# EAGLE library part FIREFLY (library Boards)
Addon Board for Firefly Sensor Nodes This version is compliant with Firefly Micro powered by Atmel Atmega128RFA1. Connectors on female gender match those on Firefly Micro Board. Connectors on male gender mate with Firefly Micro Board. Use these for addons.
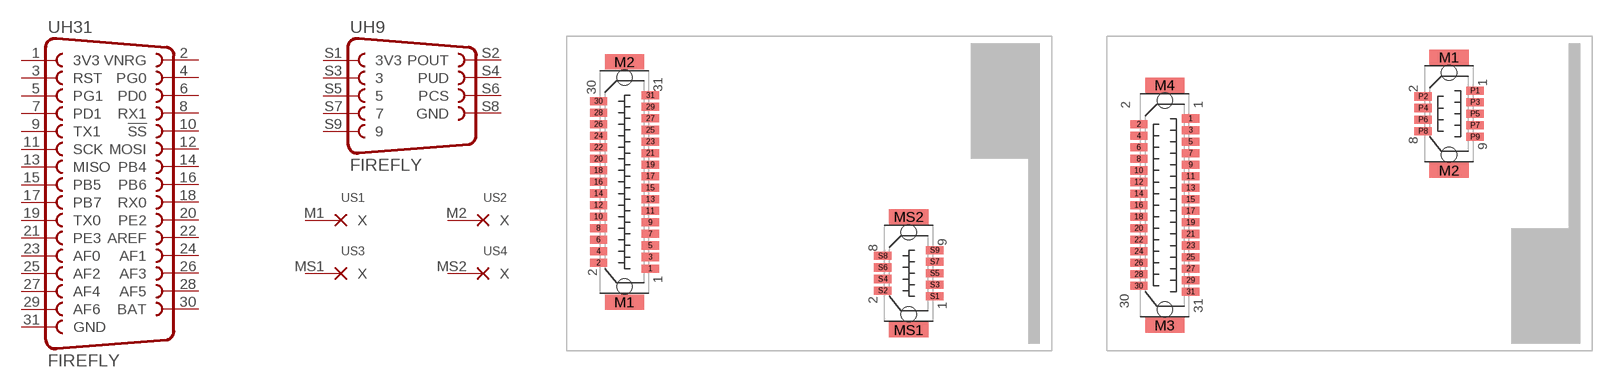
[diagram p1: symbol with the pads of FIREFLY_MICRO_MATE; footprints FIREFLY_MICRO_MATE, FIREFLY_MICRO_BOARD]

Designator prefix -; gates H31=DF9-31_FIREFLY H9=DF9-9_FIREFLY S1=PIN_NC S2=PIN_NC S3=PIN_NC S4=PIN_NC

## FIREFLY_MICRO_MATE (GENDER: Male)  [FIREFLY_MICRO_MATE]
1  H31:3V3  pwr
2  H31:VNRG  pwr
3  H31:RST  in
4  H31:PG0
5  H31:PG1
6  H31:PD0
7  H31:PD1
8  H31:RX1
9  H31:TX1
10  H31:!SS
11  H31:SCK
12  H31:MOSI
13  H31:MISO
14  H31:PB4
15  H31:PB5
16  H31:PB6
17  H31:PB7
18  H31:RX0
19  H31:TX0
20  H31:PE2
21  H31:PE3
22  H31:AREF  in
23  H31:AF0
24  H31:AF1
25  H31:AF2
26  H31:AF3
27  H31:AF4
28  H31:AF5
29  H31:AF6
30  H31:BAT
31  H31:GND  pwr
M1  S1:X  nc
M2  S2:X  nc
MS1  S3:X  nc
MS2  S4:X  nc
S1  H9:3V3  pwr
S2  H9:POUT
S3  H9:3
S4  H9:PUD
S5  H9:5
S6  H9:PCS
S7  H9:7
S8  H9:GND  pwr
S9  H9:9

## FIREFLY_MICRO_BOARD (GENDER: Female)  [FIREFLY_MICRO_BOARD]
1  H31:3V3  pwr
2  H31:VNRG  pwr
3  H31:RST  in
4  H31:PG0
5  H31:PG1
6  H31:PD0
7  H31:PD1
8  H31:RX1
9  H31:TX1
10  H31:!SS
11  H31:SCK
12  H31:MOSI
13  H31:MISO
14  H31:PB4
15  H31:PB5
16  H31:PB6
17  H31:PB7
18  H31:RX0
19  H31:TX0
20  H31:PE2
21  H31:PE3
22  H31:AREF  in
23  H31:AF0
24  H31:AF1
25  H31:AF2
26  H31:AF3
27  H31:AF4
28  H31:AF5
29  H31:AF6
30  H31:BAT
31  H31:GND  pwr
M1  S1:X  nc
M2  S2:X  nc
M3  S3:X  nc
M4  S4:X  nc
P1  H9:3V3  pwr
P2  H9:POUT
P3  H9:3
P4  H9:PUD
P5  H9:5
P6  H9:PCS
P7  H9:7
P8  H9:GND  pwr
P9  H9:9

## Footprint FIREFLY_MICRO_MATE (pad centres in mm)
smd 1.5 x 0.7: 1 -13.758,-6.497; 2 -18.258,-5.997; 3 -13.758,-5.497; 4 -18.258,-4.997; 5 -13.758,-4.497; 6 -18.258,-3.997; 7 -13.758,-3.497; 8 -18.258,-2.997; 9 -13.758,-2.497; 10 -18.258,-1.997; 11 -13.758,-1.497; 12 -18.258,-0.997; 13 -13.758,-0.497; 14 -18.258,0.003; 15 -13.758,0.503; 16 -18.258,1.003; 17 -13.758,1.503; 18 -18.258,2.003; 19 -13.758,2.503; 20 -18.258,3.003; 21 -13.758,3.503; 22 -18.258,4.003; 23 -13.758,4.503; 24 -18.258,5.003; 25 -13.758,5.503; 26 -18.258,6.003; 27 -13.758,6.503; 28 -18.258,7.003; 29 -13.758,7.503; 30 -18.258,8.003; 31 -13.758,8.503; S1 10.874,-8.905; S2 6.374,-8.405; S3 10.874,-7.905; S4 6.374,-7.405; S5 10.874,-6.905; S6 6.374,-6.405; S7 10.874,-5.905; S8 6.374,-5.405; S9 10.874,-4.905
smd 3.4 x 1.3: M1 -16.008,-9.397; M2 -16.008,11.403; MS1 8.624,-11.805; MS2 8.624,-2.005
hole 1.321 at -16.008,-8.047
hole 1.321 at -16.008,10.053
hole 1.321 at 8.624,-10.455
hole 1.321 at 8.624,-3.355

## Footprint FIREFLY_MICRO_BOARD (pad centres in mm)
smd 1.5 x 0.7: 1 -13.758,6.499; 2 -18.258,5.999; 3 -13.758,5.499; 4 -18.258,4.999; 5 -13.758,4.499; 6 -18.258,3.999; 7 -13.758,3.499; 8 -18.258,2.999; 9 -13.758,2.499; 10 -18.258,1.999; 11 -13.758,1.499; 12 -18.258,0.999; 13 -13.758,0.499; 14 -18.258,-0.001; 15 -13.758,-0.501; 16 -18.258,-1.001; 17 -13.758,-1.501; 18 -18.258,-2.001; 19 -13.758,-2.501; 20 -18.258,-3.001; 21 -13.758,-3.501; 22 -18.258,-4.001; 23 -13.758,-4.501; 24 -18.258,-5.001; 25 -13.758,-5.501; 26 -18.258,-6.001; 27 -13.758,-6.501; 28 -18.258,-7.001; 29 -13.758,-7.501; 30 -18.258,-8.001; 31 -13.758,-8.501; P1 10.874,8.907; P2 6.374,8.407; P3 10.874,7.907; P4 6.374,7.407; P5 10.874,6.907; P6 6.374,6.407; P7 10.874,5.907; P8 6.374,5.407; P9 10.874,4.907
smd 3.4 x 1.3: M1 8.624,11.807; M2 8.624,2.007; M3 -16.008,-11.401; M4 -16.008,9.399
hole 1.321 at -16.008,-10.051
hole 1.321 at -16.008,8.049
hole 1.321 at 8.624,3.357
hole 1.321 at 8.624,10.457